# Altium footprint library RF-Filters.PcbLib: 1 footprints
Each footprint in its own frame and in the unit in brackets; x right, y up, seen from the top. Pads: shape width x height; smd on the part's side, far side on the other; paste and mask are expansions set on the pad; w line width, h text height; cw(c..) or ccw(c..) is an arc to the next point about the centre after c.
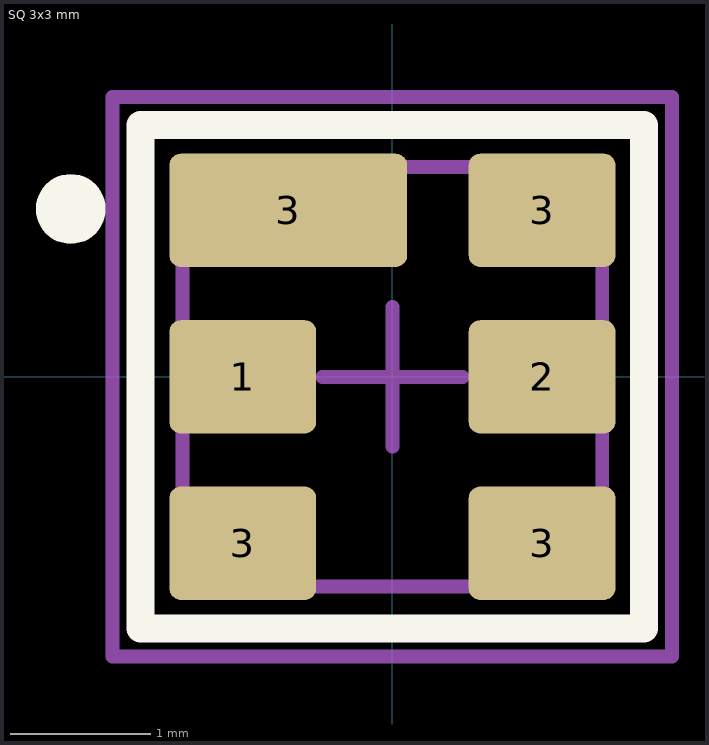
[diagram p0: the footprint, top view; thin cyan lines are the x and y axes]

## SQ 3x3 mm [mm]
pads (7):
  rrect20% 1.05x0.81 smd: 1(-1.07,0) 2(1.07,0) 3(-1.07,-1.19) 3(1.07,-1.19) 3(1.07,1.19)
  rrect20% 1.7x0.81 smd: 3(-0.745,1.19)
  round 0.5 on Top Overlay: ""(-2.3,1.2)
Top Overlay:
  lines w0.2: -1.8,-1.8 1.8,-1.8 1.8,1.8 -1.8,1.8 -1.8,-1.8
Mechanical 1:
  lines w0.1: -1.5,-1.5 1.5,-1.5 1.5,1.5 -1.5,1.5 -1.5,-1.5
Mechanical 15:
  lines w0.1: -0.5,0 0.5,0 ; 0,-0.5 0,0.5 ; -2,-2 2,-2 2,2 -2,2 -2,-2
3D body "Filter_TA0638A.STEP": height 1.4, standoff 0, extent -1.5,-1.5 1.5,1.5